# Altium schematic symbol library AD OpAmps.SchLib: 6 symbols
Pins are listed as number, name and electrical type; pins without a type are passive.

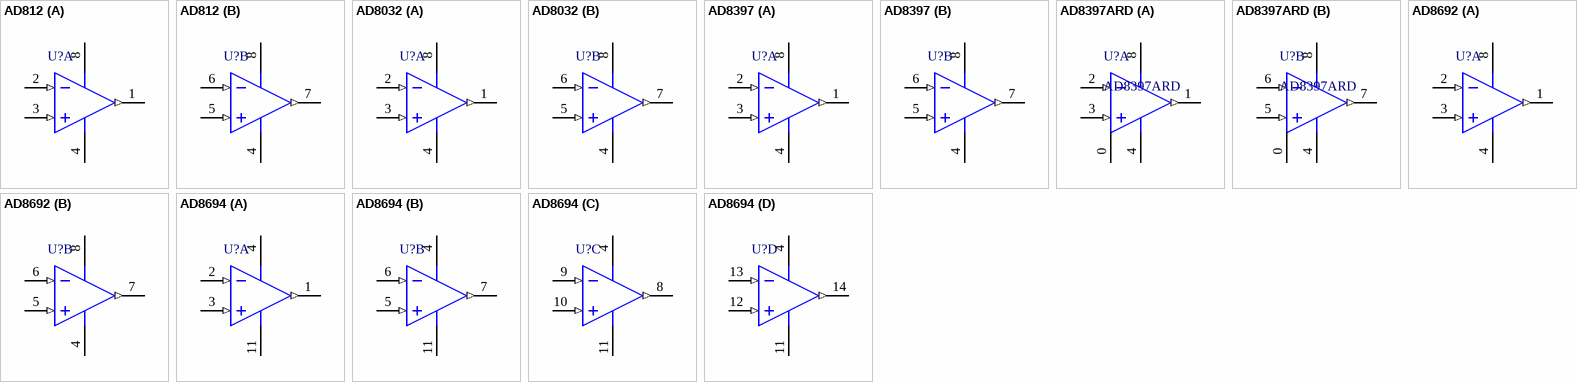
[diagram p0: symbols AD812 to AD8694]

## AD812
designator U?
Dual, Current Feedback  Low Power Op Amp; Manufacturer: Analog Devices; Manufacturer Part Number: AD8692ARMZ-REEL; Vos - Input Offset Voltage: 400 uV; en - Input Voltage Noise Density: 8 nV/sqrt Hz at 5 V; Shutdown: No Shutdown; Supply Voltage - Min: 2.7 V; Voltage Gain dB: 126.02 dB; Supply Voltage - Max: 6 V; PSRR - Power Supply Rejection Ratio: 95 dB; SR - Slew Rate: 5 V/us at 5 V; Operating Supply Current: 1.05 mA; GBP - Gain Bandwidth Product: 10 MHz; Ib - Input Bias Current: 1 pA; Development Kit: EVAL-CN0276-SDPZ; CMRR - Common Mode Rejection Ratio: 90 dB; Number of Channels: 2 Channel; Output Type: Rail to Rail Output; Description: Precision Amplifiers Dual Low Noise CMOS RRO; Maximum Operating Temperature: + 125 C; Series: AD8692; Supplier: Mouser; Reeling: True; RoHS - Mouser: Y; Minimum Order Quantity: 1; Standard Pack Qty: 3000; Minimum Operating Temperature: - 40 C; Brand: Analog Devices; Mounting Style: SMD/SMT; Packaging: Reel; RoHS: RoHS Compliant; Product: Precision Amplifiers; Package / Case: MSOP-8; Category: Precision Amplifiers; ComponentLink1URL: http://www.mouser.com/ds/2/609/AD8691_8692_8694-243302.pdf; ComponentLink1Description: http://www.mouser.com/ds/2/609/AD8691_8692_8694-243302.pdf; Supplier Part Number: 584-AD8692ARMZ-R
footprint ADI-R-8_L (SOIC, 8-Leads, Body 4.9x3.9mm, Pitch 1.27mm, IPC High Density)
footprint ADI-R-8_N (SOIC, 8-Leads, Body 4.9x3.9mm, Pitch 1.27mm, IPC Medium Density)
pins on every part: 4 -V (power), 8 +V (power)
part A pins: 1 OUT A (out), 2 -IN A (in), 3 +IN A (in)
part B pins: 5 +IN B (in), 6 -IN B (in), 7 OUT B (out)

## AD8032
designator U?
2.7 V, 800 uA, 80 MHz Rail-to-Rail I/O Amplifiers; Manufacturer: Analog Devices; Manufacturer Part Number: AD8692ARMZ-REEL; Vos - Input Offset Voltage: 400 uV; en - Input Voltage Noise Density: 8 nV/sqrt Hz at 5 V; Shutdown: No Shutdown; Supply Voltage - Min: 2.7 V; Voltage Gain dB: 126.02 dB; Supply Voltage - Max: 6 V; PSRR - Power Supply Rejection Ratio: 95 dB; SR - Slew Rate: 5 V/us at 5 V; Operating Supply Current: 1.05 mA; GBP - Gain Bandwidth Product: 10 MHz; Ib - Input Bias Current: 1 pA; Development Kit: EVAL-CN0276-SDPZ; CMRR - Common Mode Rejection Ratio: 90 dB; Number of Channels: 2 Channel; Output Type: Rail to Rail Output; Description: Precision Amplifiers Dual Low Noise CMOS RRO; Maximum Operating Temperature: + 125 C; Series: AD8692; Supplier: Mouser; Reeling: True; RoHS - Mouser: Y; Minimum Order Quantity: 1; Standard Pack Qty: 3000; Minimum Operating Temperature: - 40 C; Brand: Analog Devices; Mounting Style: SMD/SMT; Packaging: Reel; RoHS: RoHS Compliant; Product: Precision Amplifiers; Package / Case: MSOP-8; Category: Precision Amplifiers; ComponentLink1URL: http://www.mouser.com/ds/2/609/AD8691_8692_8694-243302.pdf; ComponentLink1Description: http://www.mouser.com/ds/2/609/AD8691_8692_8694-243302.pdf; Supplier Part Number: 584-AD8692ARMZ-R
footprint ADI-RM-8_L (SOP, 8-Leads, Body 3x3mm, Pitch 0.65mm, IPC High Density)
footprint ADI-R-8_L (SOIC, 8-Leads, Body 4.9x3.9mm, Pitch 1.27mm, IPC High Density)
footprint ADI-R-8_N (SOIC, 8-Leads, Body 4.9x3.9mm, Pitch 1.27mm, IPC Medium Density)
pins on every part: 4 -V (power), 8 +V (power)
part A pins: 1 OUT A (out), 2 -IN A (in), 3 +IN A (in)
part B pins: 5 +IN B (in), 6 -IN B (in), 7 OUT B (out)

## AD8397
designator U?
Manufacturer: Analog Devices Inc.; Manufacturer Part Number: AD8397ARZ; Description: Special Purpose Amplifiers RR Hi Output Current; Vos - Input Offset Voltage: 1 mV; CMRR - Common Mode Rejection Ratio: 96 dB; Ib - Input Bias Current: 0.9 uA; GBP - Gain Bandwidth Product: 35 MHz; Output Current per Channel: 310 mA; Supply Voltage - Max: 24 V; PSRR - Power Supply Rejection Ratio: - 85 dB; Brand: Analog Devices; Operating Supply Current: 9 mA; Number of Channels: 2 Channel; Voltage Gain dB: 88 dB; Supply Voltage - Min: 3 V; Amplifier Type: Line Driver ADSL2; Maximum Operating Temperature: + 85 C; Supplier: Mouser; Series: AD8397; Minimum Operating Temperature: - 40 C; Standard Pack Qty: 98; Category: Special Purpose Amplifiers; Package / Case: SOIC-8; Minimum Order Quantity: 1; Packaging: Tube; RoHS: RoHS Compliant; Mounting Style: SMD/SMT; RoHS - Mouser: Y; Product: Special Purpose Amplifiers; Reeling: False; ComponentLink1URL: http://www.mouser.com/ds/2/609/AD8397-249170.pdf; ComponentLink1Description: http://www.mouser.com/ds/2/609/AD8397-249170.pdf; Supplier Part Number: 584-AD8397ARZ
footprint ADI-R-8_L (SOIC, 8-Leads, Body 4.9x3.9mm, Pitch 1.27mm, IPC High Density)
footprint ADI-R-8_N (SOIC, 8-Leads, Body 4.9x3.9mm, Pitch 1.27mm, IPC Medium Density)
footprint ADI-RD-8-2_N (SOIC, 8-Leads, Body 4.9x3.9mm, Pitch 1.27mm, IPC Medium Density)
pins on every part: 4 -VS (power), 8 +VS (power)
part A pins: 1 OUT 1 (out), 2 -IN 1 (in), 3 +IN 1 (in)
part B pins: 5 +IN 2 (in), 6 -IN 2 (in), 7 OUT 2 (out)

## AD8397ARD
designator U?
Manufacturer: Analog Devices Inc.; Manufacturer Part Number: AD8397ARZ; Description: Special Purpose Amplifiers RR Hi Output Current; Vos - Input Offset Voltage: 1 mV; CMRR - Common Mode Rejection Ratio: 96 dB; Ib - Input Bias Current: 0.9 uA; GBP - Gain Bandwidth Product: 35 MHz; Output Current per Channel: 310 mA; Supply Voltage - Max: 24 V; PSRR - Power Supply Rejection Ratio: - 85 dB; Brand: Analog Devices; Operating Supply Current: 9 mA; Number of Channels: 2 Channel; Voltage Gain dB: 88 dB; Supply Voltage - Min: 3 V; Amplifier Type: Line Driver ADSL2; Maximum Operating Temperature: + 85 C; Supplier: Mouser; Series: AD8397; Minimum Operating Temperature: - 40 C; Standard Pack Qty: 98; Category: Special Purpose Amplifiers; Package / Case: SOIC-8; Minimum Order Quantity: 1; Packaging: Tube; RoHS: RoHS Compliant; Mounting Style: SMD/SMT; RoHS - Mouser: Y; Product: Special Purpose Amplifiers; Reeling: False; ComponentLink1URL: http://www.mouser.com/ds/2/609/AD8397-249170.pdf; ComponentLink1Description: http://www.mouser.com/ds/2/609/AD8397-249170.pdf; Supplier Part Number: 584-AD8397ARZ
footprint ADI-RD-8-2_N (SOIC, 8-Leads, Body 4.9x3.9mm, Pitch 1.27mm, IPC Medium Density)
pins on every part: 0 EP (power), 4 -VS (power), 8 +VS (power)
part A pins: 1 OUT 1 (out), 2 -IN 1 (in), 3 +IN 1 (in)
part B pins: 5 +IN 2 (in), 6 -IN 2 (in), 7 OUT 2 (out)

## AD8692
designator U?
Manufacturer: Analog Devices; Manufacturer Part Number: AD8692ARMZ-REEL; Vos - Input Offset Voltage: 400 uV; en - Input Voltage Noise Density: 8 nV/sqrt Hz at 5 V; Shutdown: No Shutdown; Supply Voltage - Min: 2.7 V; Voltage Gain dB: 126.02 dB; Supply Voltage - Max: 6 V; PSRR - Power Supply Rejection Ratio: 95 dB; SR - Slew Rate: 5 V/us at 5 V; Operating Supply Current: 1.05 mA; GBP - Gain Bandwidth Product: 10 MHz; Ib - Input Bias Current: 1 pA; Development Kit: EVAL-CN0276-SDPZ; CMRR - Common Mode Rejection Ratio: 90 dB; Number of Channels: 2 Channel; Output Type: Rail to Rail Output; Description: Precision Amplifiers Dual Low Noise CMOS RRO; Maximum Operating Temperature: + 125 C; Series: AD8692; Supplier: Mouser; Reeling: True; RoHS - Mouser: Y; Minimum Order Quantity: 1; Standard Pack Qty: 3000; Minimum Operating Temperature: - 40 C; Brand: Analog Devices; Mounting Style: SMD/SMT; Packaging: Reel; RoHS: RoHS Compliant; Product: Precision Amplifiers; Package / Case: MSOP-8; Category: Precision Amplifiers; ComponentLink1URL: http://www.mouser.com/ds/2/609/AD8691_8692_8694-243302.pdf; ComponentLink1Description: http://www.mouser.com/ds/2/609/AD8691_8692_8694-243302.pdf; Supplier Part Number: 584-AD8692ARMZ-R
footprint ADI-RM-8_L (SOP, 8-Leads, Body 3x3mm, Pitch 0.65mm, IPC High Density)
footprint ADI-R-8_L (SOIC, 8-Leads, Body 4.9x3.9mm, Pitch 1.27mm, IPC High Density)
footprint ADI-R-8_N (SOIC, 8-Leads, Body 4.9x3.9mm, Pitch 1.27mm, IPC Medium Density)
pins on every part: 4 -V (power), 8 +V (power)
part A pins: 1 OUT A (out), 2 -IN A (in), 3 +IN A (in)
part B pins: 5 +IN B (in), 6 -IN B (in), 7 OUT B (out)

## AD8694
designator U?
Manufacturer: Analog Devices Inc.; Manufacturer Part Number: AD8694ARUZ; Voltage - Input Offset: 400µV; Current - Output / Channel: 80mA; Slew Rate: 5 V/µs; Amplifier Type: General Purpose; Output Type: Rail-to-Rail; Current - Supply: 950µA; Gain Bandwidth Product: 10MHz; Current - Input Bias: 0.2pA; Number of Circuits: 4; Description: IC OPAMP GP 10MHZ RRO 14TSSOP; Voltage - Supply, Single/Dual (±): 2.7 V ~ 5.5 V, ±1.35 V ~ 2.75 V; RoHS: RoHS Compliant; Supplier Device Package: 14-TSSOP; -3db Bandwidth: -; Operating Temperature: -40°C ~ 125°C; Mounting Type: Surface Mount; Supplier: Digi-Key; Package / Case: 14-TSSOP (0.173", 4.40mm Width); Category: Integrated Circuits (ICs); Packaging: Tube; ComponentLink1URL: http://www.analog.com/media/en/technical-documentation/data-sheets/AD8691_8692_8694.pdf; ComponentLink1Description: http://www.analog.com/media/en/technical-documentation/data-sheets/AD8691_8692_8694.pdf; Supplier Part Number: AD8694ARUZ-ND
footprint ADI-RU-14_L (SOP, 14-Leads, Body 5x4.4mm, Pitch 0.65mm, IPC High Density)
footprint ADI-R-14_L (SOIC, 14-Leads, Body 8.65x3.9mm, Pitch 1.27mm, IPC High Density)
footprint ADI-R-14_N (SOIC, 14-Leads, Body 8.65x3.9mm, Pitch 1.27mm, IPC Medium Density)
pins on every part: 4 +V (power), 11 -V (power)
part A pins: 1 OUT A (out), 2 -IN A (in), 3 +IN A (in)
part B pins: 5 +IN B (in), 6 -IN B (in), 7 OUT B (out)
part C pins: 8 OUT C (out), 9 -IN C (in), 10 +IN C (in)
part D pins: 12 +IN D (in), 13 -IN D (in), 14 OUT D (out)